# EAGLE library part AD8276ARZ (library eric-custom)
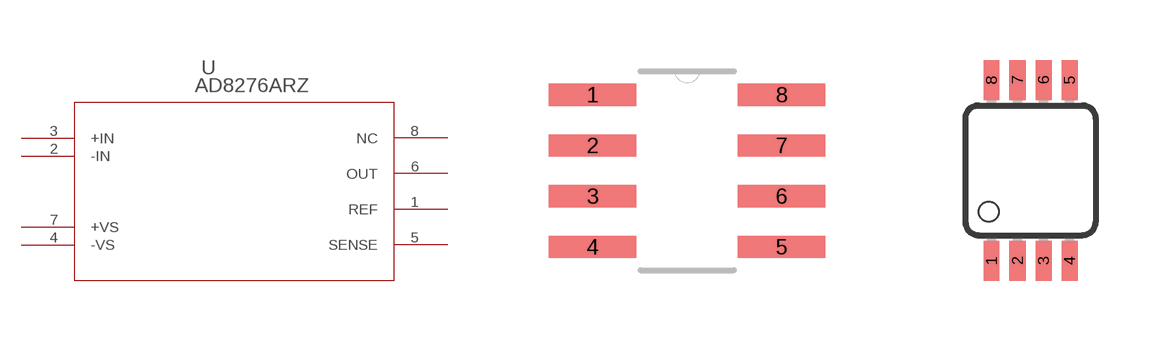
[diagram p0: symbol with the pads of R_8; footprints R_8, MSOP08]

Designator prefix U

## AD8276ARZSO8  [R_8]
1  REF  pas
2  -IN  pas
3  +IN  pas
4  -VS  pas
5  SENSE  pas
6  OUT  pas
7  +VS  pas
8  NC  pas

## AD8276ARZMSOP  [MSOP08]
Pads as for R_8

## Footprint R_8 (pad centres in mm)
smd 2.184 x 0.559: 1 -2.362,1.905; 2 -2.362,0.635; 3 -2.362,-0.635; 4 -2.362,-1.905; 5 2.362,-1.905; 6 2.362,-0.635; 7 2.362,0.635; 8 2.362,1.905

## Footprint MSOP08 (pad centres in mm)
8-Lead micro SO (RM-8) Source: http://www.analog.com/UploadedFiles/Data_Sheets/703465986AD8611_2_0.pdf
smd 0.4 x 1: 1 -0.976,-2.263; 2 -0.326,-2.263; 3 0.324,-2.263; 4 0.974,-2.263; 5 0.974,2.262; 6 0.324,2.262; 7 -0.326,2.262; 8 -0.976,2.262